# EAGLE library part PHB_1MM27_2X14_?_S (library _hhn_con_pinhead_box_1mm27)
Pin Header Box-Type, 1.27mm/0.5"/50mil Pitch, 2x14 Circuits, single gates in schematic Note: see library description for an important note about THT-version
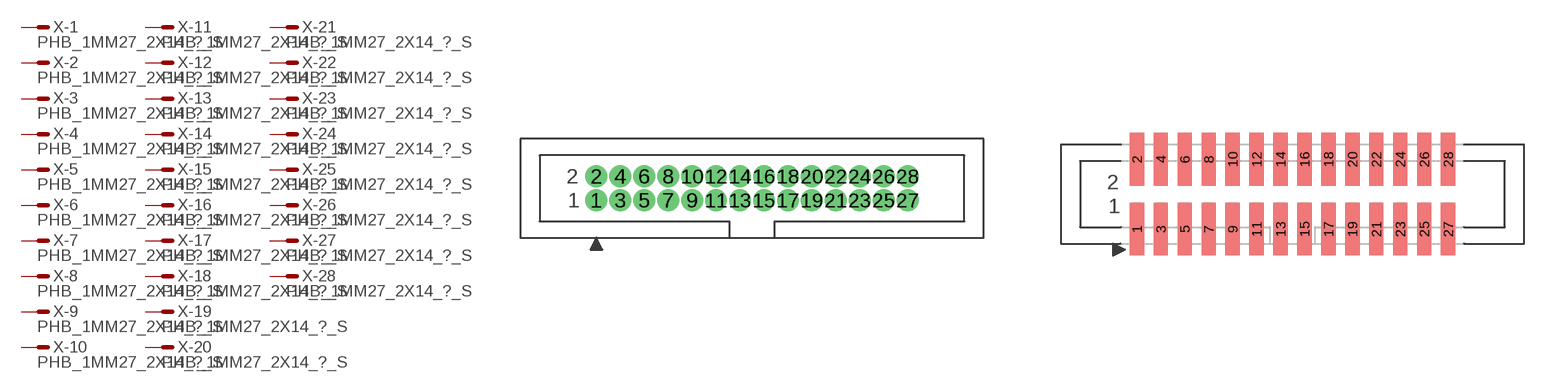
[diagram p29: symbol with the pads of PHB_1MM27_2X14_SNT; footprints PHB_1MM27_2X14_SNT, PHB_1MM27_2X14_SNS]

Designator prefix X; gates -1=M -2=M -3=M -4=M -5=M -6=M -7=M -8=M -9=M -10=M -11=M -12=M -13=M -14=M -15=M -16=M -17=M -18=M -19=M -20=M -21=M -22=M -23=M -24=M -25=M -26=M -27=M -28=M

## PHB_1MM27_2X14_SNT_S  [PHB_1MM27_2X14_SNT]
1  -1:S  pas
2  -2:S  pas
3  -3:S  pas
4  -4:S  pas
5  -5:S  pas
6  -6:S  pas
7  -7:S  pas
8  -8:S  pas
9  -9:S  pas
10  -10:S  pas
11  -11:S  pas
12  -12:S  pas
13  -13:S  pas
14  -14:S  pas
15  -15:S  pas
16  -16:S  pas
17  -17:S  pas
18  -18:S  pas
19  -19:S  pas
20  -20:S  pas
21  -21:S  pas
22  -22:S  pas
23  -23:S  pas
24  -24:S  pas
25  -25:S  pas
26  -26:S  pas
27  -27:S  pas
28  -28:S  pas

## PHB_1MM27_2X14_SNS_S  [PHB_1MM27_2X14_SNS]
Pads as for PHB_1MM27_2X14_SNT

## Footprint PHB_1MM27_2X14_SNT (pad centres in mm)
Pin Header Box-Type, 1.27mm Pitch, 2x14 circuits, Straight, No Locking, THT Important Note: Diameter in this lbr is set to a specific value (NOT 'auto' = 0), this is ignored by actual eagle versions if drc-settings result in a bigger diameter. Workaround: DRC > Restring: set "min value" to 8mil (on top, bottom, inner) This requires an 8-mil process (pcb manufacturer)! You may increase %-value, e.g. to 25%
drill 0.65 pad 1 round: 1 -8.255,-0.635; 2 -8.255,0.635; 3 -6.985,-0.635; 4 -6.985,0.635; 5 -5.715,-0.635; 6 -5.715,0.635; 7 -4.445,-0.635; 8 -4.445,0.635; 9 -3.175,-0.635; 10 -3.175,0.635; 11 -1.905,-0.635; 12 -1.905,0.635; 13 -0.635,-0.635; 14 -0.635,0.635; 15 0.635,-0.635; 16 0.635,0.635; 17 1.905,-0.635; 18 1.905,0.635; 19 3.175,-0.635; 20 3.175,0.635; 21 4.445,-0.635; 22 4.445,0.635; 23 5.715,-0.635; 24 5.715,0.635; 25 6.985,-0.635; 26 6.985,0.635; 27 8.255,-0.635; 28 8.255,0.635

## Footprint PHB_1MM27_2X14_SNS (pad centres in mm)
Pin Header Box-Type, 1.27mm Pitch, 2x14 circuits, Straight, No Locking, SMT
smd 0.76 x 2.8: 1 -8.255,-1.85; 2 -8.255,1.85; 3 -6.985,-1.85; 4 -6.985,1.85; 5 -5.715,-1.85; 6 -5.715,1.85; 7 -4.445,-1.85; 8 -4.445,1.85; 9 -3.175,-1.85; 10 -3.175,1.85; 11 -1.905,-1.85; 12 -1.905,1.85; 13 -0.635,-1.85; 14 -0.635,1.85; 15 0.635,-1.85; 16 0.635,1.85; 17 1.905,-1.85; 18 1.905,1.85; 19 3.175,-1.85; 20 3.175,1.85; 21 4.445,-1.85; 22 4.445,1.85; 23 5.715,-1.85; 24 5.715,1.85; 25 6.985,-1.85; 26 6.985,1.85; 27 8.255,-1.85; 28 8.255,1.85